# Altium footprint library altium-designer-library.PcbLib: 26 footprints (part 2 of 2)
Each footprint in its own frame and in the unit in brackets; x right, y up, seen from the top. Pads: shape width x height; smd on the part's side, far side on the other; paste and mask are expansions set on the pad; w line width, h text height; cw(c..) or ccw(c..) is an arc to the next point about the centre after c.
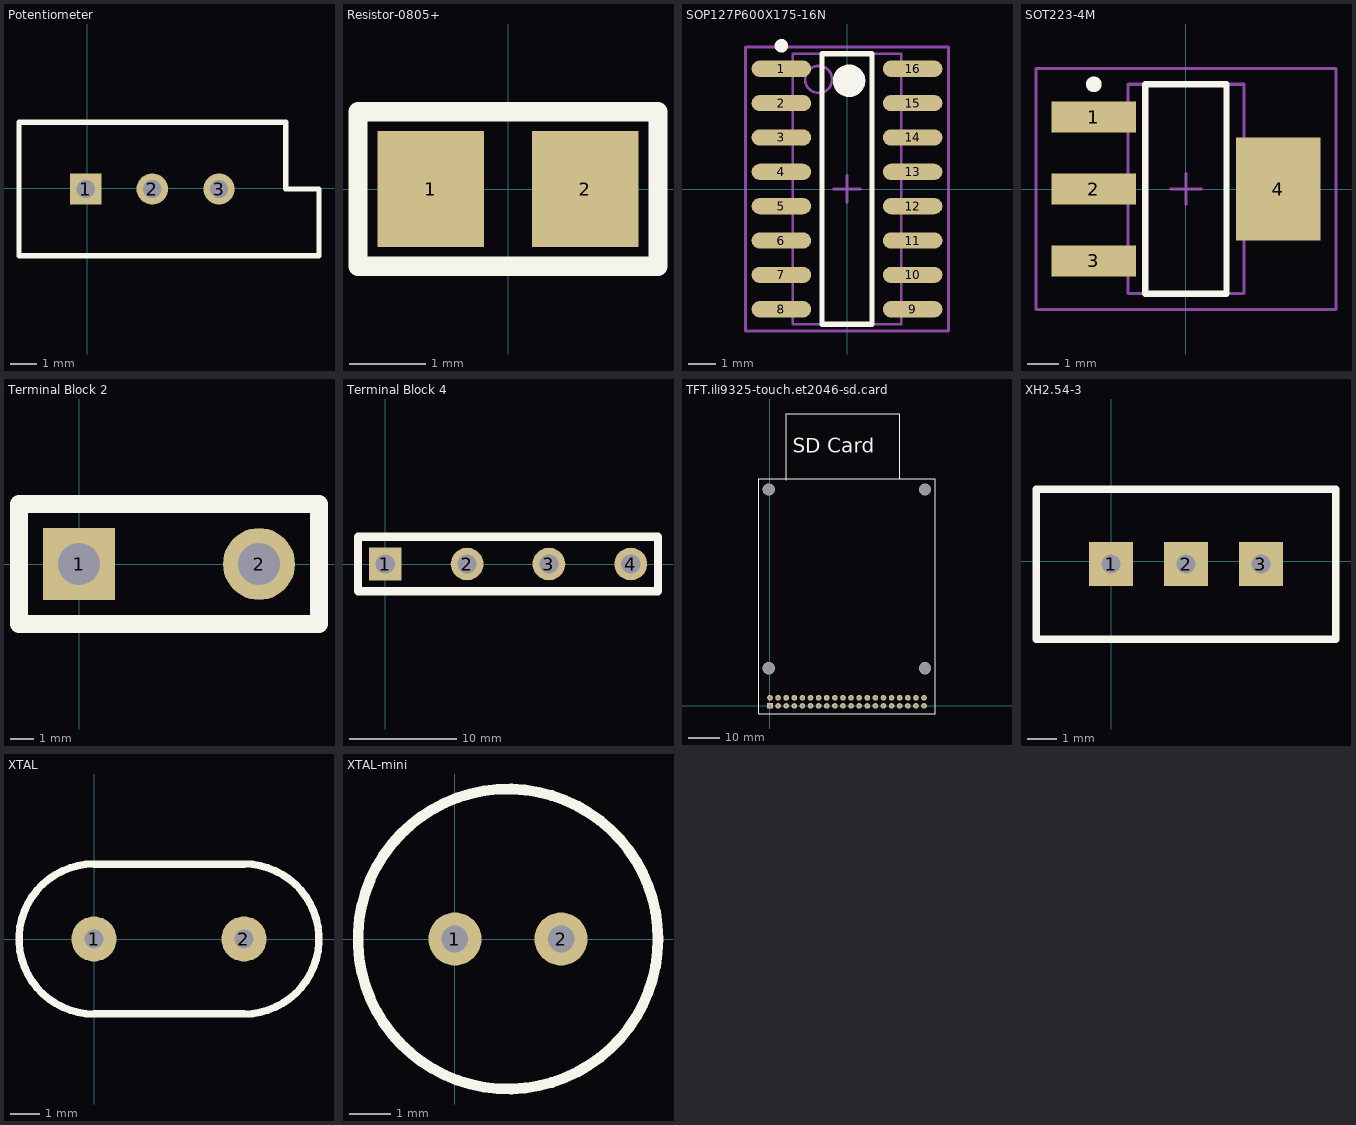
[diagram p1: the footprints below, top view; thin cyan lines are the x and y axes]

## Potentiometer [mm]
height 12.7
pads (3):
  rect 1.2x1.2 hole 0.7: 1(-0.051,-0.025)
  round 1.2 hole 0.7: 2(2.489,-0.025) 3(5.029,-0.025)
Top Overlay:
  lines w0.2: -2.591,-2.565 -2.591,2.515 7.569,2.515 7.569,-0.025 8.839,-0.025 8.839,-2.565 -2.591,-2.565

## Resistor-0805+ [mil]
pads (2):
  rect 55x60 smd: 1(-40,0) 2(40,0)
Top Overlay:
  lines w10: -77.5,-40 -77.5,0 -77.5,40 77.5,40 77.5,-40 -77.5,-40

## SOP127P600X175-16N [mm] "SOP, 16-Leads, Body 10.0x4.0mm (max), Pitch 1.27mm, IPC Medium Density"
height 1.75
pads (16):
  oval 2.2x0.6 smd: 1(-2.425,4.445) 2(-2.425,3.175) 3(-2.425,1.905) 4(-2.425,0.635) 5(-2.425,-0.635) 6(-2.425,-1.905) 7(-2.425,-3.175) 8(-2.425,-4.445) 9(2.425,-4.445) 10(2.425,-3.175) 11(2.425,-1.905) 12(2.425,-0.635) 13(2.425,0.635) 14(2.425,1.905) 15(2.425,3.175) 16(2.425,4.445)
Top Overlay:
  circle w0.25: c-2.425,5.295 r0.125
  circle w0.6: c0.075,4 r0.3
  lines w0.2: -0.925,-5 -0.925,5 0.925,5 0.925,-5 -0.925,-5
Mechanical 13:
  circle w0.1: c-1.05,4.05 r0.5
  lines w0.1: -2,-5 -2,5 2,5 2,-5 -2,-5
Mechanical 15:
  lines w0.1: -0.5,0 0.5,0 ; 0,-0.5 0,0.5 ; -3.75,-5.25 -3.75,5.25 3.75,5.25 3.75,-5.25 -3.75,-5.25
3D body: height 1.75, standoff 0.1, extent -2,-5 2,5

## SOT223-4M [mm] "SOT223, 4-Leads, Body 6.5x3.5mm, Pitch 2.3mm, Lead Span 7mm, IPC Low Density"
height 1.8
pads (4):
  rect 2.7x1 smd: 1(-2.95,2.3) 2(-2.95,0) 3(-2.95,-2.3)
  rect 2.7x3.3 smd: 4(2.95,0)
Top Overlay:
  circle w0.25: c-2.95,3.35 r0.125
  lines w0.2: -1.3,-3.35 -1.3,3.35 1.3,3.35 1.3,-3.35 -1.3,-3.35
Mechanical 13:
  lines w0.1: -1.85,-3.35 -1.85,3.35 1.85,3.35 1.85,-3.35 -1.85,-3.35
Mechanical 15:
  lines w0.1: -0.5,0 0.5,0 ; 0,-0.5 0,0.5 ; -4.8,-3.85 -4.8,3.85 4.8,3.85 4.8,-3.85 -4.8,-3.85
3D body: height 1.8, standoff 0, extent -1.85,-3.35 1.85,3.35

## Terminal Block 2 [mil]
height 500
pads (2):
  rect 120x120 hole 70: 1(0,0)
  round 120 hole 70: 2(300,0)
Top Overlay:
  lines w30: -100,-100 -100,0 -100,100 400,100 400,-100 -100,-100

## Terminal Block 4 [mil]
height 500
pads (4):
  rect 120x120 hole 70: 1(0,0)
  round 120 hole 70: 2(300,0) 3(600,0) 4(900,0)
Top Overlay:
  lines w30: -100,-100 1000,-100 1000,100 -100,100 -100,-100

## TFT.ili9325-touch.et2046-sd.card [mil]
pads (40):
  rect 70x70 hole 35: 1(0,0)
  round 70 hole 35: 2(100,0) 3(200,0) 4(300,0) 5(400,0) 6(500,0) 7(600,0) 8(700,0) 9(800,0) 10(900,0) 11(1000,0) 12(1100,0) 13(1200,0) 14(1300,0) 15(1400,0) 16(1500,0) 17(1600,0) 18(1700,0) 19(1800,0) 20(1900,0) 21(0,100) 22(100,100) 23(200,100) 24(300,100) 25(400,100) 26(500,100) 27(600,100) 28(700,100) 29(800,100) 30(900,100) 31(1000,100) 32(1100,100) 33(1200,100) 34(1300,100) 35(1400,100) 36(1500,100) 37(1600,100) 38(1700,100) 39(1800,100) 40(1900,100)
via -15,2668.1 diameter 150 hole 140
via 1914,2668.1 diameter 150 hole 140
via 1914,463.4 diameter 150 hole 140
via -15,463.4 diameter 150 hole 140
Top Overlay:
  lines w10: 200,2780 200,3580 200,3600 1600,3600 1600,3540 1600,2800 ; -140,-100 -140,2800 2040,2800 2040,-100 -140,-100
  text "SD Card" at 280,3120 h180

## XH2.54-3 [mm]
pads (3):
  rect 1.5x1.5 hole 0.64: 1(0,-0.1) 2(2.54,-0.1) 3(5.08,-0.1)
Top Overlay:
  lines w0.254: -2.54,-2.64 -2.54,2.44 7.62,2.44 7.62,-2.64 -2.54,-2.64

## XTAL [mil]
height 30
pads (2):
  round 60 hole 25: 1(0,0) 2(200,0)
Top Overlay:
  lines w10: 0,-100 cw(c0,0) 0,100 200,100 cw(c200,0) 200,-100 0,-100

## XTAL-mini [mil]
pads (2):
  round 50 hole 25: 1(0,0) 2(100,0)
Top Overlay:
  circle w10: c50,0 r141.42